# Altium footprint library 2078430003.PcbLib: 1 footprints
Each footprint in its own frame and in the unit in brackets; x right, y up, seen from the top. Pads: shape width x height; smd on the part's side, far side on the other; paste and mask are expansions set on the pad; w line width, h text height; cw(c..) or ccw(c..) is an arc to the next point about the centre after c.
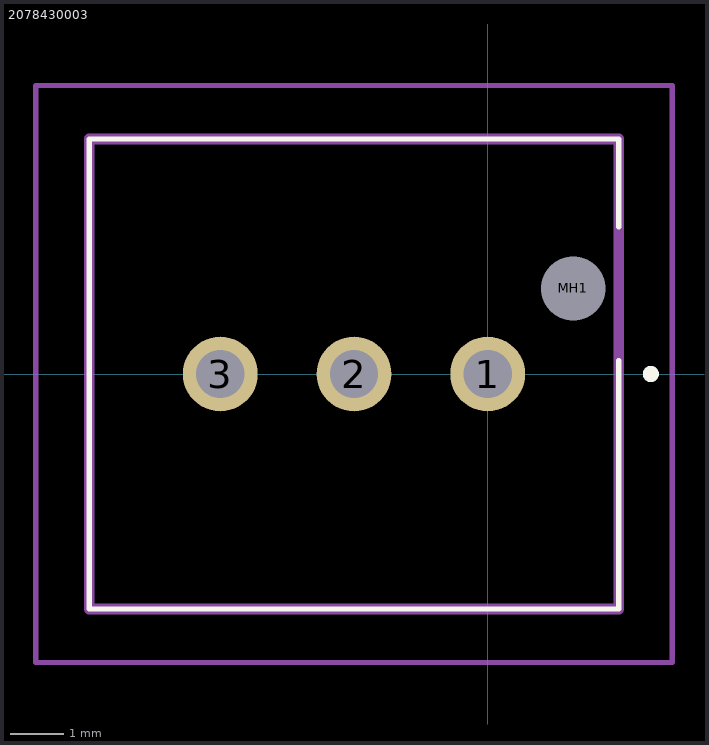
[diagram p0: the footprint, top view; thin cyan lines are the x and y axes]

## 2078430003 [mm]
pads (4):
  round 1.4 hole 0.9: 1(0,0) 2(-2.5,0) 3(-5,0)
  round 0.6 hole 1.2 unplated: MH1(1.6,1.6)
Top Overlay:
  lines w0.1: -7.45,-4.395 2.45,-4.395 ; -7.45,-4.395 2.45,-4.395 ; -7.45,-4.395 -7.45,-4.395 ; -7.45,-4.395 -7.45,4.395 ; -7.45,-4.395 -7.45,-4.395 ; -7.45,-4.395 -7.45,4.395 ; -7.45,4.395 2.45,4.395 ; -7.45,4.395 -7.45,4.395 ; -7.45,4.395 2.45,4.395 ; -7.45,4.395 -7.45,4.395 ; 2.45,-4.395 2.45,-4.395 ; 2.45,-4.395 2.45,-4.395 ; 2.45,-4.395 2.45,0.25 ; 2.45,-4.395 2.45,0.25 ; 2.45,0.25 2.45,0.25 ; 2.45,2.75 2.45,2.75 ; 2.45,2.75 2.45,4.395 ; 2.45,2.75 2.45,4.395 ; 2.45,4.395 2.45,4.395 ; 2.45,4.395 2.45,4.395
  lines w0.2: 3,0 cw(c3.05,0) 3.1,0 ; 3,0 3,0 ; 3,0 ccw(c3.05,0) 3.1,0 ; 3,0 cw(c3.05,0) 3.1,0 ; 3.1,0 3.1,0 ; 3.1,0 3.1,0
Mechanical 15:
  lines w0.2: -7.45,-4.395 2.45,-4.395 2.45,4.395 -7.45,4.395 -7.45,-4.395
Mechanical 20:
  lines w0.1: -8.45,-5.395 3.45,-5.395 3.45,5.395 -8.45,5.395 -8.45,-5.395